# Altium schematic symbol library M.2接口.SchLib: 2 symbols
Pins are listed as number, name and electrical type; pins without a type are passive.

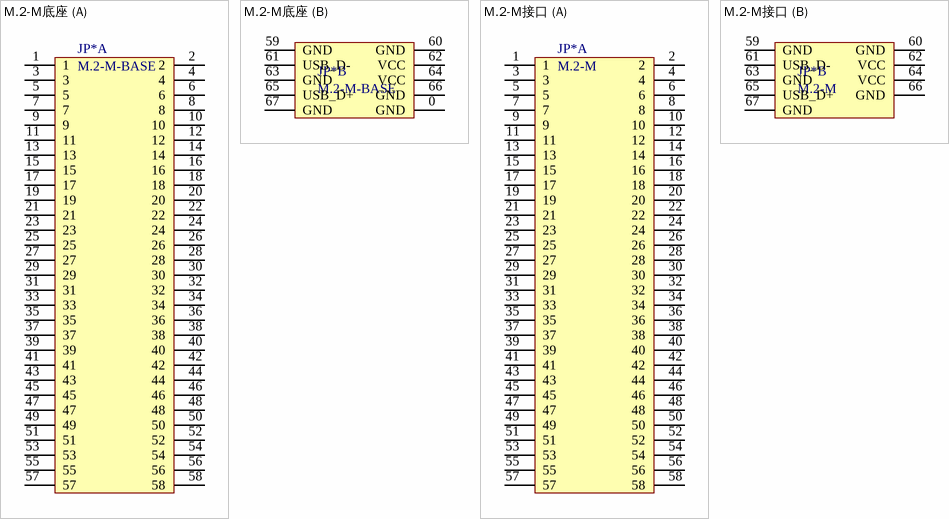
[diagram p0: symbols M.2-M底座 to M.2-M接口]

## M.2-M底座
designator JP*, comment M.2-M-BASE
M.2-M底座
footprint M.2-MKEY-W-底座 (卧式)
footprint M.2-MKEY-LI-底座 (立式)
footprint M.2-MKEY-W-2230底座 (2230底座)
part A pins: 1, 2, 3, 4, 5, 6, 7, 8, 9, 10, 11, 12, 13, 14, 15, 16, 17, 18, 19, 20, 21, 22, 23, 24, 25, 26, 27, 28, 29, 30, 31, 32, 33, 34, 35, 36, 37, 38, 39, 40, 41, 42, 43, 44, 45, 46, 47, 48, 49, 50, 51, 52, 53, 54, 55, 56, 57, 58
part B pins: 0 GND, 59 GND, 60 GND, 61 USB_D-, 62 VCC, 63 GND, 64 VCC, 65 USB_D+, 66 GND, 67 GND

## M.2-M接口
designator JP*, comment M.2-M
M.2-M接口
footprint M.2-MKEY (公头通用)
part A pins: 1, 2, 3, 4, 5, 6, 7, 8, 9, 10, 11, 12, 13, 14, 15, 16, 17, 18, 19, 20, 21, 22, 23, 24, 25, 26, 27, 28, 29, 30, 31, 32, 33, 34, 35, 36, 37, 38, 39, 40, 41, 42, 43, 44, 45, 46, 47, 48, 49, 50, 51, 52, 53, 54, 55, 56, 57, 58
part B pins: 59 GND, 60 GND, 61 USB_D-, 62 VCC, 63 GND, 64 VCC, 65 USB_D+, 66 GND, 67 GND